# Altium footprint library STM32FG07VGT6_LIB.PcbLib: 5 footprints
Each footprint in its own frame and in the unit in brackets; x right, y up, seen from the top. Pads: shape width x height; smd on the part's side, far side on the other; paste and mask are expansions set on the pad; w line width, h text height; cw(c..) or ccw(c..) is an arc to the next point about the centre after c.
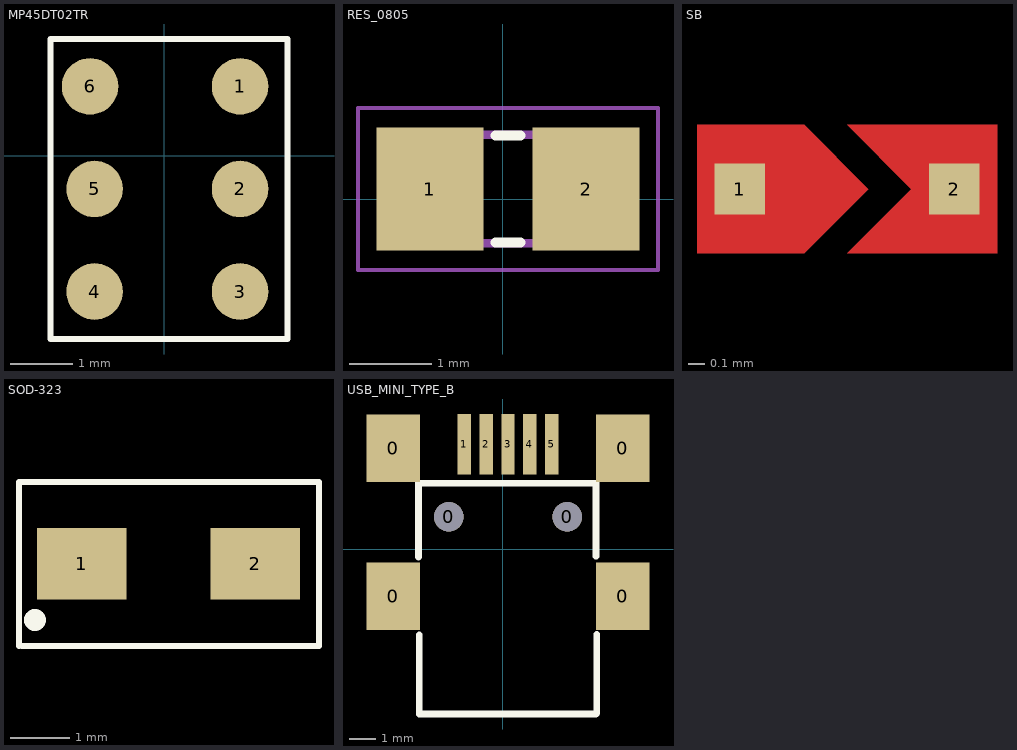
[diagram p0: the footprints below, top view; thin cyan lines are the x and y axes]

## MP45DT02TR [mm]
pads (6):
  round 0.91 smd: 1(1.219,1.118) 2(1.219,-0.532) 3(1.219,-2.182) 4(-1.121,-2.182) 5(-1.121,-0.532) 6(-1.194,1.118)
Top Overlay:
  lines w0.1: -1.829,-2.946 -1.829,1.88 1.981,1.88 1.981,-2.184 1.981,-2.946 -1.829,-2.946
3D body: height 1.25, standoff 0, extent -1.829,-2.946 1.981,1.88

## RES_0805 [mm]
pads (2):
  rect 1.3x1.5 smd: 1(-0.889,0.127) 2(1.011,0.127)
Top Overlay:
  lines w0.127: -0.089,-0.523 0.211,-0.523 ; -0.089,0.777 0.211,0.777
Mechanical 13:
  region: 1.167,-0.597 0.417,-0.597 0.417,0.853 1.167,0.853
  region: -0.281,-0.597 -1.031,-0.597 -1.031,0.853 -0.281,0.853
  lines w0.102: -0.32,0.787 0.442,0.787 ; -0.295,-0.533 0.442,-0.533
Mechanical 15:
  lines w0.051: -1.762,-0.856 -1.762,1.11 1.884,1.11 1.884,-0.856 -1.762,-0.856
3D body "0805_resistor.step": height 0.43, standoff -0.03, extent -1,-0.452 1,0.808

## SB [mm]
pads (2):
  rect 0.3x0.3 smd: 1(22.581,-760.654) 2(23.851,-760.654)
Top Layer:
  region: 22.327,-760.273 22.962,-760.273 23.343,-760.654 22.962,-761.035 22.327,-761.035
  region: 23.216,-760.273 23.597,-760.654 23.216,-761.035 24.105,-761.035 24.105,-760.273

## SOD-323 [mm]
pads (2):
  rect 1.5x1.2 smd: 1(-267.538,-70.739) 2(-264.638,-70.739)
Top Overlay:
  circle w0.254: c-268.326,-71.679 r0.057
  lines w0.1: -268.593,-72.113 -268.593,-69.367 -263.576,-69.367 -263.566,-69.367 -263.566,-72.114 -268.554,-72.114
3D body "User Library-SOD2513X11.STEP": height 1.1, standoff 0, extent -267.44,-71.364 -264.74,-70.114

## USB_MINI_TYPE_B [mm]
pads (11):
  rect 2x2.5 smd: 0(-4.064,-1.753) 0(-4.064,3.747) 0(4.47,-1.753) 0(4.47,3.747)
  round 1.1 hole 1.1: 0(-1.997,1.2) 0(2.403,1.2)
  rect 0.5x2.25 smd: 1(-1.422,3.9) 2(-0.61,3.9) 3(0.203,3.9) 4(1.016,3.9) 5(1.829,3.9)
Top Overlay:
  lines w0.254: -3.124,-0.291 -3.124,2.427 ; -3.124,2.452 3.454,2.452 ; -3.099,-3.192 -3.099,-6.133 3.48,-6.133 3.505,-6.108 3.505,-3.167 ; 3.48,-0.266 3.48,2.452
3D body "1-1734035-1.stp": height 4.14, standoff -0.95, extent -4.928,-4.282 4.972,4.918